# Altium schematic symbol library MidtermSCHLIB.SchLib: 7 symbols
Pins are listed as number, name and electrical type; pins without a type are passive.

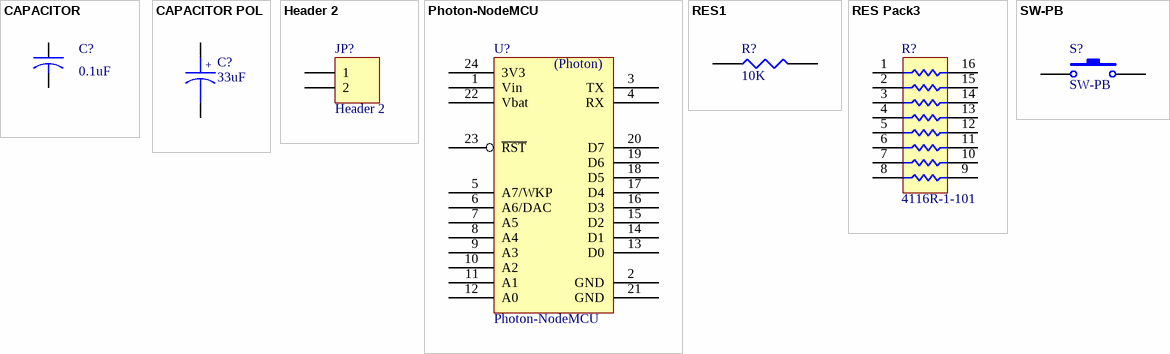
[diagram p0: symbols CAPACITOR to SW-PB]

## CAPACITOR
designator C?, comment 0.1uF
non-pol capacitor
footprint RAD0.2
pins: 1, 2

## CAPACITOR POL
designator C?, comment 33uF
Polarized Capacitor
pins: 1, 2
text: +

## Header 2
designator JP?
Header, 2-Pin; Revision: 17-Jul-2002: Re-released for DXP Platform.; Publisher: Altium Limited
footprint HDR1X2 (Connector; Header; 2 Position)
signal-integrity model Connector
pins: 1, 2

## Photon-NodeMCU
designator U?
footprint Photon
pins: 1 Vin (power), 2 GND, 3 TX, 4 RX, 5 A7/WKP, 6 A6/DAC, 7 A5, 8 A4, 9 A3, 10 A2, 11 A1, 12 A0, 13 D0, 14 D1, 15 D2, 16 D3, 17 D4, 18 D5, 19 D6, 20 D7, 21 GND, 22 Vbat (power), 23 ~{RST}, 24 3V3 (power)
text: (Photon)

## RES1
designator R?, comment 10K
Resistor
footprint AXIAL0.5
pins: 1, 2

## RES Pack3
designator R?, comment 4116R-1-101
Isolated Resistor Network ( x 8); Published: 24-Mar-1999; LatestRevisionDate: 17-Jul-2002; LatestRevisionNote: Re-released for DXP Platform.; Publisher: Altium Limited
footprint DIP16 (Footprint not found)
pins: 1, 2, 3, 4, 5, 6, 7, 8, 9, 10, 11, 12, 13, 14, 15, 16

## SW-PB
designator S?
Switch; Published: 24-Mar-1999; LatestRevisionDate: 17-Jul-2002; LatestRevisionNote: Re-released for DXP Platform.; PackageReference: SPST-2; Publisher: Altium Limited; PackageDescription: Switch; 2 Leads
footprint SPST-2 (Switch; 2 Leads)
pins: 1, 2